# Altium schematic symbol library SG_GOST_MCU_Logic.SchLib: 3 symbols
Pins are listed as number, name and electrical type; pins without a type are passive.

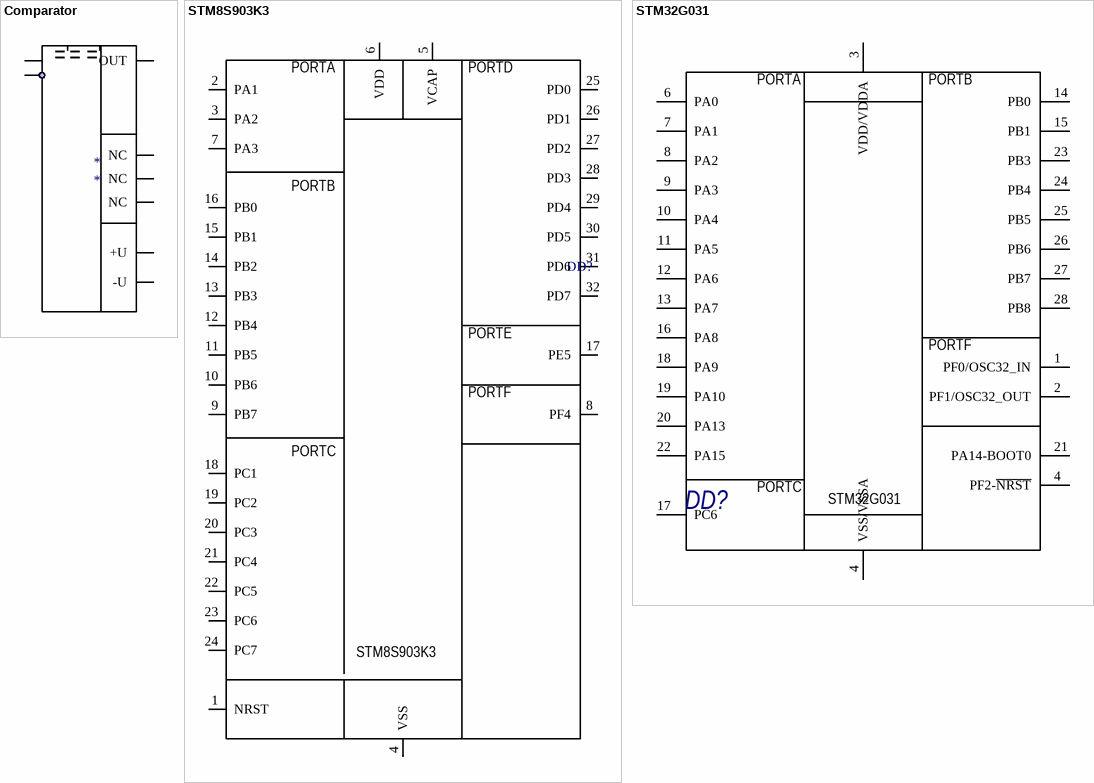
[diagram p0: symbols Comparator to STM32G031]

## Comparator
designator *
pins: 2 -IN, 3 +IN, 4 OUT, 5 NC, 6 NC, 7 NC, 8 +U, 9 -U

## STM8S903K3
designator DD?, comment STM8S903K3T6C@ST  (value not drawn)
Order: МикроконтроллерSTM8S903K3T6C@ST, ST Electronic, США; SerialNumber: STM8S903K3T6C@ST
footprint 32-LQFP
pins: 1 NRST, 2 PA1, 3 PA2, 4 VSS, 5 VCAP, 6 VDD, 7 PA3, 8 PF4, 9 PB7, 10 PB6, 11 PB5, 12 PB4, 13 PB3, 14 PB2, 15 PB1, 16 PB0, 17 PE5, 18 PC1, 19 PC2, 20 PC3, 21 PC4, 22 PC5, 23 PC6, 24 PC7, 25 PD0, 26 PD1, 27 PD2, 28 PD3, 29 PD4, 30 PD5, 31 PD6, 32 PD7
text: PORTA; PORTD; PORTB; PORTE; PORTF; PORTC

## STM32G031
designator DD?  (value not drawn)
Order: МикроконтроллерSTM32G031G8U6, ST Electronic, США; SerialNumber: STM32G031G8U6
pins: 1 PF0/OSC32_IN, 2 PF1/OSC32_OUT, 3 VDD/VDDA, 4 PF2-~{NRST}, 4 VSS/VSSA, 6 PA0, 7 PA1, 8 PA2, 9 PA3, 10 PA4, 11 PA5, 12 PA6, 13 PA7, 14 PB0, 15 PB1, 16 PA8, 17 PC6, 18 PA9, 19 PA10, 20 PA13, 21 PA14-BOOT0, 22 PA15, 23 PB3, 24 PB4, 25 PB5, 26 PB6, 27 PB7, 28 PB8
text: PORTA; PORTB; PORTF; PORTC